# Altium schematic symbol library MAXM15062AMB+.SchLib: 1 symbol
Pins are listed as number, name and electrical type; pins without a type are passive.

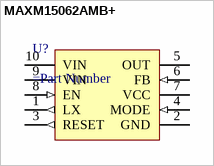
[diagram p0: symbol MAXM15062AMB+]

## MAXM15062AMB+
designator U?
=Description
pins: 1 LX (out), 2 GND (power), 3 RESET (out), 4 MODE (in), 5 OUT (power), 6 FB (in), 7 VCC (power), 8 EN (in), 9 VIN (power), 10 VIN (power)